# EAGLE library part TPS63025 (library ecad)
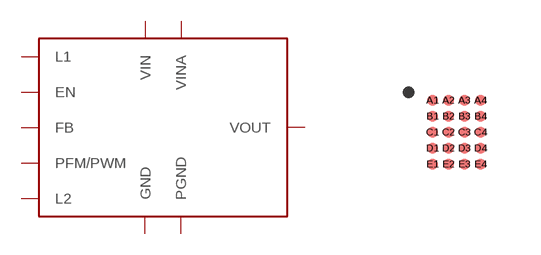
[diagram p0: symbol with the pads of 20_BUMP_YFF; footprint 20_BUMP_YFF]

Designator prefix U

## TPS63025  [20_BUMP_YFF]
A1  VOUT  pas
A2  VOUT  pas
A3  VOUT  pas
A4  FB  pas
B1  L2  pas
B2  L2  pas
B3  L2  pas
B4  PFM/PWM  pas
C1  PGND  pas
C2  PGND  pas
C3  PGND  pas
C4  GND  pas
D1  L1  pas
D2  L1  pas
D3  L1  pas
D4  EN  pas
E1  VIN  pas
E2  VIN  pas
E3  VIN  pas
E4  VINA  pas

## Footprint 20_BUMP_YFF (pad centres in mm)
smd 0.28 x 0.28: A1 -0.6,0.8; A2 -0.2,0.8; A3 0.2,0.8; A4 0.6,0.8; B1 -0.6,0.4; B2 -0.2,0.4; B3 0.2,0.4; B4 0.6,0.4; C1 -0.6,0; C2 -0.2,0; C3 0.2,0; C4 0.6,0; D1 -0.6,-0.4; D2 -0.2,-0.4; D3 0.2,-0.4; D4 0.6,-0.4; E1 -0.6,-0.8; E2 -0.2,-0.8; E3 0.2,-0.8; E4 0.6,-0.8